# Altium footprint library DMP6023LE-13.PcbLib: 3 footprints
Each footprint in its own frame and in the unit in brackets; x right, y up, seen from the top. Pads: shape width x height; smd on the part's side, far side on the other; paste and mask are expansions set on the pad; w line width, h text height; cw(c..) or ccw(c..) is an arc to the next point about the centre after c.
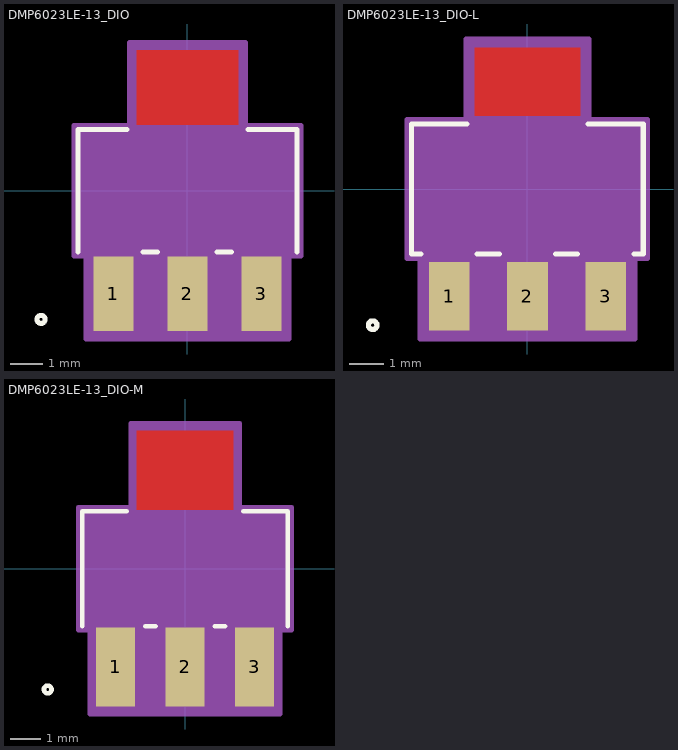
[diagram p0: the footprints below, top view; thin cyan lines are the x and y axes]

## DMP6023LE-13_DIO [mil]
pads (3):
  rect 49x91 smd paste+0 mask+0: 1(-90.55,-125.98) 2(0,-125.98) 3(90.55,-125.98)
Top Layer:
  region: 62,80.48 62,171.48 -62,171.48 -62,80.48
Top Overlay:
  circle w6: c-179,-157.48 r5
  lines w6: -134,-75 -134,75 -73.9,75 ; -54.15,-75 -36.4,-75 ; 36.4,-75 54.15,-75 ; 73.9,75 134,75 134,-75
  text ".Designator" at -137.5,-25 h50
Top Paste:
  region: 62,80.48 62,171.48 -62,171.48 -62,80.48
Top Solder:
  region: 63,66.48 63,185.48 -63,185.48 -63,66.48
Mechanical 13:
  circle w1: c-119,-60 r5
  lines w1: -129,-70 129,-70 129,70 -129,70 -129,-70 ; -114.05,-157.48 -114.05,-70 -67.05,-70 -67.05,-157.48 -114.05,-157.48 ; -61,70 61,70 61,157.48 -61,157.48 -61,70 ; -23.5,-157.48 -23.5,-70 23.5,-70 23.5,-157.48 -23.5,-157.48 ; 67.05,-157.48 67.05,-70 114.05,-70 114.05,-157.48 67.05,-157.48
  text ".Designator" at -137.5,-25 h50
Mechanical 15:
  region: -139,-80 -139,80 -71,80 -71,181.48 71,181.48 71,80 139,80 139,-80 124.05,-80 124.05,-181.48 -124.05,-181.48 -124.05,-80
  lines w6: -139,-80 -139,80 -71,80 -71,181.48 71,181.48 71,80 139,80 139,-80 124.05,-80 124.05,-181.48 -124.05,-181.48 -124.05,-80 -139,-80
3D body "DMP6023LE-13_DIO.step": height 65.12, standoff 0, extent -129.02,-157.48 129.02,157.48

## DMP6023LE-13_DIO-L [mil]
pads (3):
  rect 47x79 smd paste+0 mask+0: 1(-90.55,-123.98) 2(0,-123.98) 3(90.55,-123.98)
Top Layer:
  region: 61,84.48 61,163.48 -61,163.48 -61,84.48
Top Overlay:
  circle w6: c-179,-157.48 r5
  lines w6: -123.09,-75 -134,-75 -134,75 -70.04,75 ; -58.01,-75 -32.54,-75 ; 32.54,-75 58.01,-75 ; 70.04,75 134,75 134,-75 123.09,-75
  text ".Designator" at -137.5,-25 h50
Top Paste:
  region: 61,84.48 61,163.48 -61,163.48 -61,84.48
Top Solder:
  region: 61,74.48 61,169.48 -61,169.48 -61,74.48
Mechanical 13:
  circle w1: c-119,-60 r5
  lines w1: -129,-70 129,-70 129,70 -129,70 -129,-70 ; -114.05,-157.48 -114.05,-70 -67.05,-70 -67.05,-157.48 -114.05,-157.48 ; -61,70 61,70 61,157.48 -61,157.48 -61,70 ; -23.5,-157.48 -23.5,-70 23.5,-70 23.5,-157.48 -23.5,-157.48 ; 67.05,-157.48 67.05,-70 114.05,-70 114.05,-157.48 67.05,-157.48
  text ".Designator" at -137.5,-25 h50
Mechanical 15:
  region: -139,-80 -139,80 -71,80 -71,173.48 71,173.48 71,80 139,80 139,-80 124.05,-80 124.05,-173.48 -124.05,-173.48 -124.05,-80
  lines w6: -139,-80 -139,80 -71,80 -71,173.48 71,173.48 71,80 139,80 139,-80 124.05,-80 124.05,-173.48 -124.05,-173.48 -124.05,-80 -139,-80
3D body "DMP6023LE-13_DIO.step": height 65.12, standoff 0, extent -129.02,-157.48 129.02,157.48

## DMP6023LE-13_DIO-M [mil]
pads (3):
  rect 51x103 smd paste+0 mask+0: 1(-90.55,-127.98) 2(0,-127.98) 3(90.55,-127.98)
Top Layer:
  region: 63,76.48 63,179.48 -63,179.48 -63,76.48
Top Overlay:
  circle w6: c-179,-157.48 r5
  lines w6: -134,-75 -134,75 -76.02,75 ; -52.04,-75 -38.52,-75 ; 38.52,-75 52.04,-75 ; 76.02,75 134,75 134,-75
  text ".Designator" at -137.5,-25 h50
Top Paste:
  region: 63,76.48 63,179.48 -63,179.48 -63,76.48
Top Solder:
  region: 65,58.48 65,201.48 -65,201.48 -65,58.48
Mechanical 13:
  circle w1: c-119,-60 r5
  lines w1: -129,-70 129,-70 129,70 -129,70 -129,-70 ; -114.05,-157.48 -114.05,-70 -67.05,-70 -67.05,-157.48 -114.05,-157.48 ; -61,70 61,70 61,157.48 -61,157.48 -61,70 ; -23.5,-157.48 -23.5,-70 23.5,-70 23.5,-157.48 -23.5,-157.48 ; 67.05,-157.48 67.05,-70 114.05,-70 114.05,-157.48 67.05,-157.48
  text ".Designator" at -137.5,-25 h50
Mechanical 15:
  region: -139,-80 -139,80 -71,80 -71,189.48 71,189.48 71,80 139,80 139,-80 124.05,-80 124.05,-189.48 -124.05,-189.48 -124.05,-80
  lines w6: -139,-80 -139,80 -71,80 -71,189.48 71,189.48 71,80 139,80 139,-80 124.05,-80 124.05,-189.48 -124.05,-189.48 -124.05,-80 -139,-80
3D body "DMP6023LE-13_DIO.step": height 65.12, standoff 0, extent -129.02,-157.48 129.02,157.48